# Altium footprint library CAP-SMD_BD6.3-L6.6-W6.6-LS7.3-FD.PcbLib: 1 footprints
Each footprint in its own frame and in the unit in brackets; x right, y up, seen from the top. Pads: shape width x height; smd on the part's side, far side on the other; paste and mask are expansions set on the pad; w line width, h text height; cw(c..) or ccw(c..) is an arc to the next point about the centre after c.
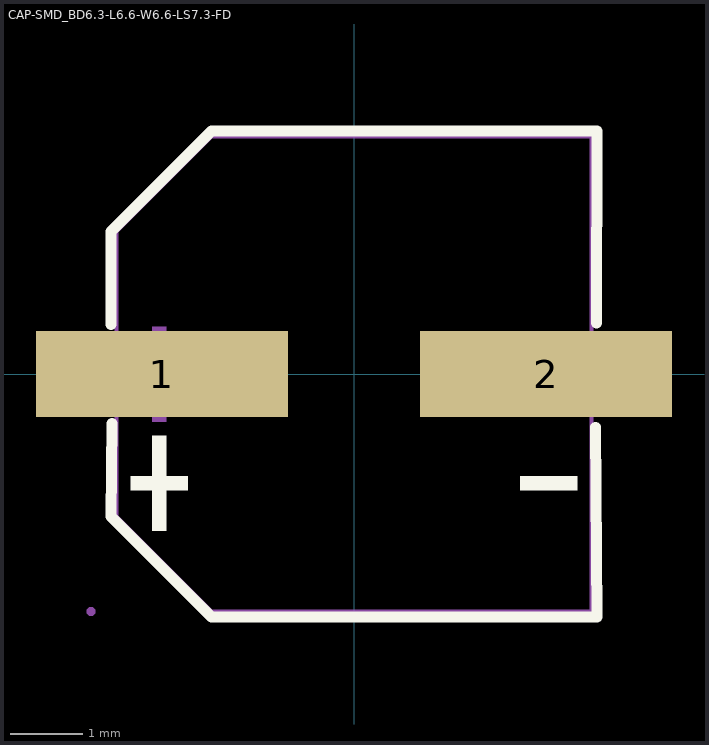
[diagram p0: the footprint, top view; thin cyan lines are the x and y axes]

## CAP-SMD_BD6.3-L6.6-W6.6-LS7.3-FD [mm]
pads (2):
  rect 3.5x1.2 smd: 1(-2.67,0) 2(2.67,0)
Top Overlay:
  region: 3.102,-1.419 3.102,-1.617 2.31,-1.617 2.31,-1.419
  region: -3.102,-1.419 -3.102,-1.617 -2.31,-1.617 -2.31,-1.419
  region: -2.805,-0.858 -2.805,-2.178 -2.607,-2.178 -2.607,-0.858
  lines w0.152: -3.376,0.686 -3.376,1.98 -1.98,3.376 3.376,3.376 3.369,0.708 ; -3.362,-0.686 -3.376,-1.981 -1.981,-3.376 3.376,-3.376 3.356,-0.739
Mechanical 6:
  region: 3.102,0.099 3.102,-0.099 2.31,-0.099 2.31,0.099
  region: -3.102,0.099 -3.102,-0.099 -2.31,-0.099 -2.31,0.099
  region: -2.805,0.66 -2.805,-0.66 -2.607,-0.66 -2.607,0.66
Mechanical 15:
  region: -3.652,0.35 -1.002,0.35 -1.002,-0.35 -3.652,-0.35
  region: 0.999,0.35 3.649,0.35 3.649,-0.35 0.999,-0.35
  region: -3.592,-3.3 -3.592,-3.275 -3.627,-3.24 -3.676,-3.24 -3.712,-3.275 -3.712,-3.3 -3.712,-3.325 -3.677,-3.36 -3.627,-3.36 -3.592,-3.325 -3.592,-3.3
  lines w0.051: -3.3,-1.98 -3.3,1.98 -1.98,3.3 3.3,3.3 3.3,-3.3 -1.98,-3.3 -3.3,-1.98